# Altium schematic symbol library 67997-402HLF.SchLib: 2 symbols
Pins are listed as number, name and electrical type; pins without a type are passive.

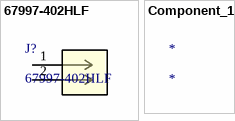
[diagram p0: symbols 67997-402HLF to Component_1]

## 67997-402HLF
designator J?
No Description Available; Manufacturer_Name: Amphenol ICC; Copyright: Copyright (C) 2025 Ultra Librarian. All rights reserved.; Manufacturer_Part_Number: 67997-402HLF; RefDes: RefDes; Type: Type
footprint 2Pins_AMP
pins: 1, 2

## Component_1
designator *